# Altium integrated library Bornera.IntLib: 4 symbols
Pins are listed as number, name and electrical type; pins without a type are passive.

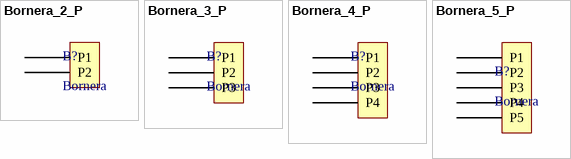
[diagram p0: symbols Bornera_2_P to Bornera_5_P]

## Bornera_2_P
designator B?, comment Bornera
Bornera 2 Polos 5mm; Nombre: Bornera 2 Polos Tornillos paso 5mm 8A; Autor: ROUX, Federico G.(rouxfederico@hotmail.com); Empresa: NEROX S.R.L.; Fabricante: DINKLE ENTERPRISE CO., LTD
footprint Bornera_2_P (Footprint Bornera 2 Polos paso 5mm 8A DINKLE)
pins: 1 P1, 2 P2

## Bornera_3_P
designator B?, comment Bornera
Bornera 3 Polos 5mm; Empresa: NEROX S.R.L.; Autor: ROUX, Federico G.(rouxfederico@gmail.com); Fabricante: DINKLE ENTERPRISE CO., LTD.; Nombre: Bornera 3 Polos Tornillos paso 5mm 8A
footprint Bornera_3_P (Footprint Bornera 3 Polos paso 5mm 8A DINKLE)
pins: 1 P1, 2 P2, 3 P3

## Bornera_4_P
designator B?, comment Bornera
Bornera 4 Polos 5mm; Empresa: NEROX S.R.L.; Autor: ROUX, Federico G.(rouxfederico@gmail.com); Fabricante: DINKLE ENTERPRISE CO., LTD.; Nombre: Bornera 4 Polos Tornillos paso 5mm 8A
footprint Bornera_4_P (Footprint Bornera 4 Polos paso 5mm 8A DINKLE)
pins: 1 P1, 2 P2, 3 P3, 4 P4

## Bornera_5_P
designator B?, comment Bornera
Bornera 5 Polos 5mm; Empresa: NEROX S.R.L.; Autor: ROUX, Federico G.(rouxfederico@gmail.com); Fabricante: DINKLE ENTERPRISE CO., LTD.; Nombre: Bornera 5 Polos Tornillos paso 5mm 8A
footprint Bornera_5_P (Footprint Bornera 5 Polos paso 5mm 8A DINKLE)
pins: 1 P1, 2 P2, 3 P3, 4 P4, 5 P5